# Altium schematic symbol library C23186.SchLib: 1 symbol
Pins are listed as number, name and electrical type; pins without a type are passive.

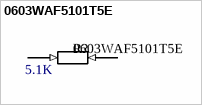
[diagram p0: symbol 0603WAF5101T5E]

## 0603WAF5101T5E
designator R?  value 5.1K
5.1kÎ© Â±1% 100mW 0603 Thick Film Resistor; Name: C23186; Source: LCSC
footprint R0603 (6.8k? ±5% 100mW 0603 Thick Film Resistor AEC-Q200)
pins: 1 (in), 2 (in)